# Altium footprint library ga2o3.PcbLib: 4 footprints
Each footprint in its own frame and in the unit in brackets; x right, y up, seen from the top. Pads: shape width x height; smd on the part's side, far side on the other; paste and mask are expansions set on the pad; w line width, h text height; cw(c..) or ccw(c..) is an arc to the next point about the centre after c.
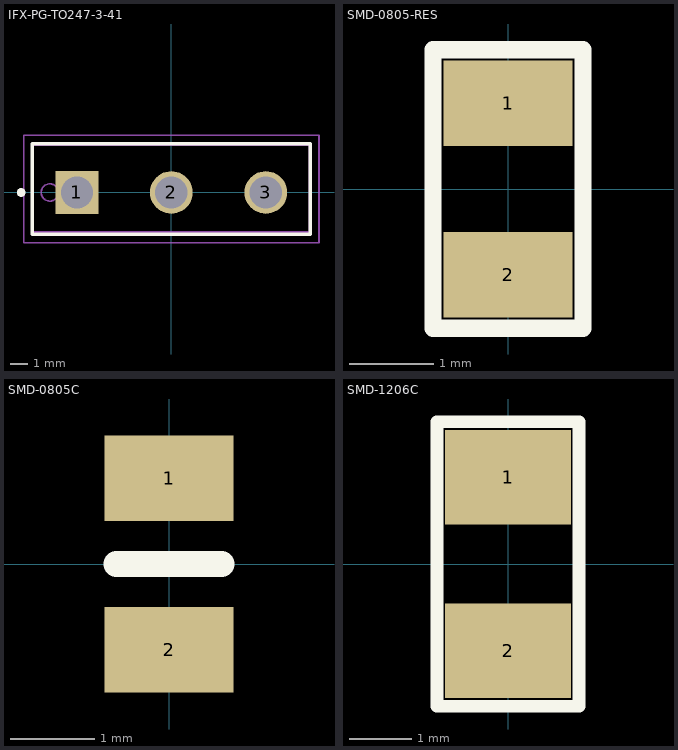
[diagram p0: the footprints below, top view; thin cyan lines are the x and y axes]

## IFX-PG-TO247-3-41 [mm] "TO247-Diode; 3 pin, 5.44 mm pitch, 15.90 mm L X 5.00 mm W X 26.00 mm H body"
height 26
pads (3):
  rect 2.46x2.46 hole 1.86 paste-2539.97 mask+0: 1(-5.44,0)
  round 2.46 hole 1.86 paste-2539.97 mask+0: 2(0,0) 3(5.44,0)
Top Overlay:
  circle w0.25: c-8.65,0 r0.125
  lines w0.2: -8,-2.4 -8,2.8 8,2.8 8,-2.4 -8,-2.4
Mechanical 3:
  text ".DESIGNATOR" at 0,0 h1.2
Mechanical 13:
  circle w0.1: c-7,0 r0.5
  lines w0.1: -7.95,-2.282 7.95,-2.282 7.95,2.718 -7.95,2.718 -7.95,-2.282
Mechanical 15:
  lines w0.1: -0.5,0 0.5,0 ; 0,-0.5 0,0.5 ; -8.5,-2.9 -8.5,3.3 8.5,3.3 8.5,-2.9 -8.5,-2.9
3D body "AIDW10S65C5.STEP": height 26, standoff -15.9, extent -7.95,-2.232 7.95,2.768

## SMD-0805-RES [mil]
pads (2):
  rect 60x40 smd: 1(0,40) 2(0,-40)
Top Overlay:
  lines w8: -35,-65 -35,65 35,65 35,-65 -35,-65
3D body "SW3dPS-0805 SMD Resistor.STEP": height 30.79, standoff 0, extent -23.6,-39.36 25.6,39.38

## SMD-0805C [mil]
pads (2):
  rect 60x40 smd: 1(0,40) 2(0,-40)
Top Overlay:
  lines w12: -24.6,0.01 24.6,0.01
3D body "capacitor 0805.step": height 35.43, standoff 0, extent -24.6,-39.36 24.6,39.38

## SMD-1206C [mil]
pads (2):
  rect 80x60 smd: 1(0,55) 2(0,-55)
Top Overlay:
  lines w8: -45,-90 -45,90 45,90 45,-90 -45,-90
3D body "capacitor 1206.step": height 39.37, standoff 0, extent -31.49,-62.99 31.5,63